# Altium schematic symbol library TESTLOOP.SchLib: 1 symbol
Pins are listed as number, name and electrical type; pins without a type are passive.

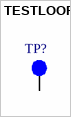
[diagram p0: symbol TESTLOOP]

## TESTLOOP
designator TP?
TEST POINT PAD 30MIL DIA SMT, NO PART TO ORDER
pins: 1 Pin1